# Altium footprint library L23.PcbLib: 56 footprints (part 4 of 4)
Each footprint in its own frame and in the unit in brackets; x right, y up, seen from the top. Pads: shape width x height; smd on the part's side, far side on the other; paste and mask are expansions set on the pad; w line width, h text height; cw(c..) or ccw(c..) is an arc to the next point about the centre after c.
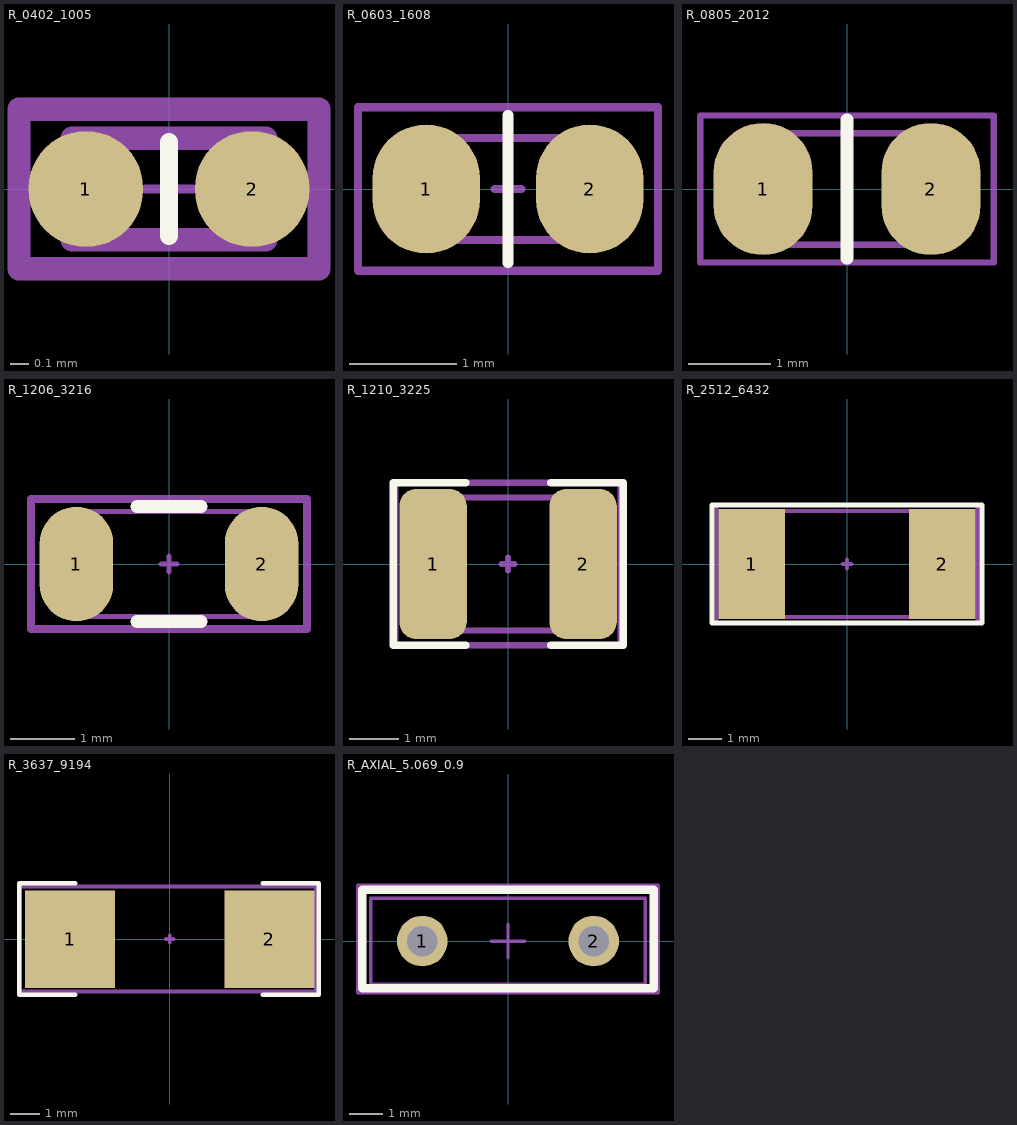
[diagram p3: the footprints below, top view; thin cyan lines are the x and y axes]

## R_0402_1005 [mm]
pads (2):
  oval 0.62x0.63 smd mask+0.05: 1(-0.45,0) 2(0.45,0)
Top Overlay:
  lines w0.1: 0,-0.254 0,0.254
Assembly Top:
  lines w0.127: -0.525,-0.275 -0.525,0.275 0.525,0.275 0.525,-0.275 -0.525,-0.275
Courtyard Top:
  lines w0.051: -0.127,0 0.127,0 ; 0,-0.127 0,0.127
  lines w0.127: -0.813,-0.432 -0.813,0.432 0.813,0.432 0.813,-0.432 -0.813,-0.432
3D body "MCS 0402.stp": height 0.32, standoff 0, extent -0.5,-0.25 0.5,0.25

## R_0603_1608 [mm]
pads (2):
  oval 1x1.2 smd mask+0.1: 1(-0.762,0) 2(0.762,0)
Top Overlay:
  lines w0.1: 0,-0.686 0,0.686
Mechanical 1:
  lines w0.076: -0.875,-0.475 0.875,-0.475 0.875,0.475 -0.875,0.475 -0.875,-0.475
Assembly Bottom:
  lines w0.076: -0.127,0 0.127,0 ; 0,-0.127 0,0.127 ; -1.397,-0.762 -1.397,0.762 1.397,0.762 1.397,-0.762 -1.397,-0.762
3D body "RES 0603 (1608 metric).STEP": height 0.54, standoff -0.01, extent -0.875,-0.475 0.875,0.475

## R_0805_2012 [mm]
pads (2):
  oval 1.2x1.6 smd mask+0.1: 1(-1.016,0) 2(1.016,0)
Top Overlay:
  lines w0.152: 0,-0.838 0,0.838 0,-0.838
Mechanical 1:
  lines w0.076: -1.1,-0.675 1.1,-0.675 1.1,0.675 -1.1,0.675 -1.1,-0.675
Assembly Bottom:
  lines w0.076: -1.778,-0.889 1.778,-0.889 1.778,0.889 -1.778,0.889 -1.778,-0.889
3D body "RES 0805 (2012 metric).STEP": height 0.69, standoff -0.01, extent -1.1,-0.675 1.1,0.675

## R_1206_3216 [mm]
pads (2):
  oval 1.15x1.8 smd mask+0: 1(-1.45,0) 2(1.45,0)
Top Overlay:
  lines w0.2: -0.5,-0.9 0.5,-0.9 ; -0.5,0.9 0.5,0.9
Assembly Top:
  lines w0.076: -1.625,-0.825 -1.625,0.825 1.625,0.825 1.625,-0.825 -1.625,-0.825
Courtyard Top:
  lines w0.076: -0.127,0 0.127,0 ; 0,-0.127 0,0.127
  lines w0.127: -2.159,-1.016 -2.159,1.016 2.159,1.016 2.159,-1.016 -2.159,-1.016
3D body "RESC3216X65N.stp": height 0.65, standoff 0, extent -1.675,-0.875 1.675,0.875

## R_1210_3225 [mil]
pads (2):
  rrect50% 54x120 smd mask+4: 1(-60,0) 2(60,0)
Top Overlay:
  lines w6: -34,-65 -92,-65 -92,65 -34,65 ; 34,-65 92,-65 92,65 34,65
Assembly Top:
  lines w5: -5,0 5,0 ; 0,-5 0,5 ; -66.83,-53.14 -66.83,53.16 67.02,53.16 67.02,-53.14 -66.83,-53.14
Courtyard Top:
  lines w5: -90,-65 90,-65 90,65 -90,65 -90,-65
3D body "RES 1210 (3225 metric).STEP": height 27.05, standoff -0.51, extent -66.83,-53.14 67.02,53.16

## R_2512_6432 [mm]
pads (2):
  rect 2.005x3.302 smd: 1(-2.871,0) 2(2.871,0)
Top Overlay:
  lines w0.152: -4.064,-1.778 4.064,-1.778 4.064,1.778 -4.064,1.778 -4.064,-1.778
Assembly Top:
  lines w0.127: -2.946,-1.601 -2.946,1.601 3.404,1.601 3.404,-1.601 -2.946,-1.601
Courtyard Top:
  lines w0.127: -0.127,0 0.127,0 ; 0,-0.127 0,0.127 ; -3.937,-1.778 -3.937,1.778 3.937,1.778 3.937,-1.778 -3.937,-1.778
3D body "User Library-Chip Resistor_2512 (6432).step": height 0.57, standoff 0, extent -2.946,-1.601 3.404,1.601

## R_3637_9194 [mm]
pads (2):
  rect 3.048x3.3 smd: 1(-3.375,0) 2(3.375,0)
Top Overlay:
  lines w0.152: -3.2,-1.88 -5.105,-1.88 -5.105,1.884 -3.2,1.884 ; 3.15,-1.88 5.055,-1.88 5.055,1.884 3.15,1.884
Mechanical 15:
  lines w0.127: -0.127,0 0.127,0 ; 0,-0.127 0,0.127 ; -5.08,-1.778 4.953,-1.778 4.953,1.778 -5.08,1.778 -5.08,-1.778

## R_AXIAL_5.069_0.9 [mm]
pads (2):
  round 1.5 hole 0.9: 1(-2.54,0) 2(2.54,0)
Top Overlay:
  lines w0.254: -4.318,-1.397 4.318,-1.397 4.318,1.524 -4.318,1.524 -4.318,-1.397
Mechanical 13:
  lines w0.1: -4.064,-1.27 4.064,-1.27 4.064,1.27 -4.064,1.27 -4.064,-1.27
Mechanical 15:
  lines w0.1: -0.5,0 0.5,0 ; 0,-0.5 0,0.5
  lines w0.127: -4.445,-1.524 4.445,-1.524 4.445,1.651 -4.445,1.651 -4.445,-1.524
Mechanical 17:
  text "'.Designator'" at -3.556,-0.381 h0.64
Mechanical 19:
  text "'.Comment'" at -2.921,-0.254 h0.64
3D body "SW3DPS-0_125W METAL FILM RESISTOR-DEFAULT.STEP": height 9.85, standoff -5.9, extent -3.429,-0.911 2.721,0.889